# Altium schematic symbol library 08B0-1X1T-06-F.Schlib: 1 symbol
Pins are listed as number, name and electrical type; pins without a type are passive.

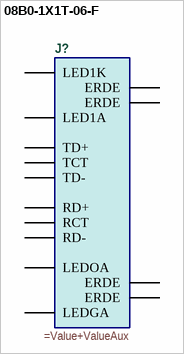
[diagram p0: symbol 08B0-1X1T-06-F]

## 08B0-1X1T-06-F
designator J?
=Description
pins: 1 TCT, 2 TD+, 3 TD-, 4 RD+, 5 RD-, 6 RCT, 7 LED1K, 8 LED1A, 9 LEDOA, 10 LEDGA, A ERDE, B ERDE, C ERDE, D ERDE